# EAGLE library part 3-84953-0 (library 3-84953-0)
Check availability <https://pricing.snapeda.com/parts/3-84953-0/TE%20Connectivity/view-part?ref=eda>
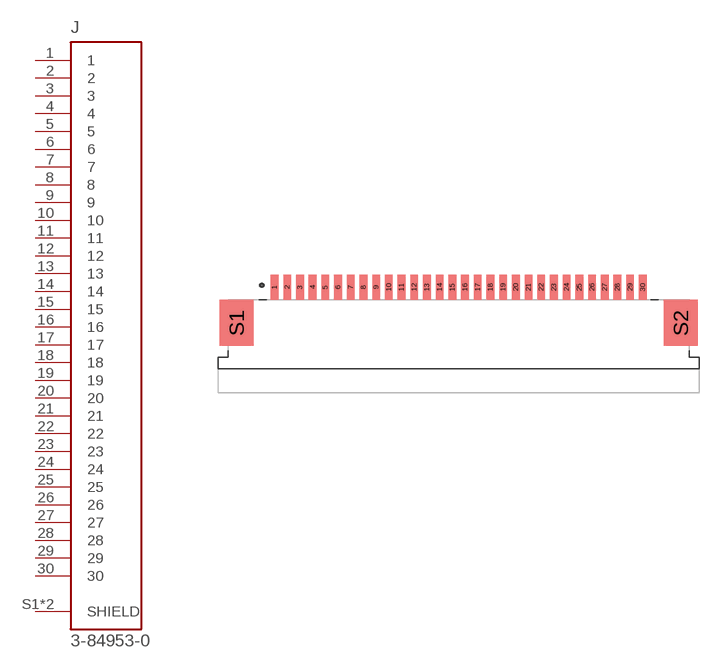
[diagram p0: symbol with the pads of TE_3-84953-0; footprint TE_3-84953-0]

Designator prefix J

## 3-84953-0 (Availability: In Stock; Centerline_Pitch: 1 mm[.039 in]; Comment: 3-84953-0; Description: 30 Position FPC Connector Contacts, Top 0.039 (1.00mm) Surface Mount, Right Angle; EU_RoHS_Compliance: Compliant; MF: TE Connectivity; MP: 3-84953-0; Number_of_Positions: 30; Package: None; Price: None; Product_Type: Connector; Purchase-URL: https://pricing.snapeda.com/search?q=3-84953-0&ref=eda)  [TE_3-84953-0]
1  1  pas
2  2  pas
3  3  pas
4  4  pas
5  5  pas
6  6  pas
7  7  pas
8  8  pas
9  9  pas
10  10  pas
11  11  pas
12  12  pas
13  13  pas
14  14  pas
15  15  pas
16  16  pas
17  17  pas
18  18  pas
19  19  pas
20  20  pas
21  21  pas
22  22  pas
23  23  pas
24  24  pas
25  25  pas
26  26  pas
27  27  pas
28  28  pas
29  29  pas
30  30  pas
S1  SHIELD  pas
S2  SHIELD  pas

## Footprint TE_3-84953-0 (pad centres in mm)
smd 0.61 x 2: 1 -14.5,0; 2 -13.5,0; 3 -12.5,0; 4 -11.5,0; 5 -10.5,0; 6 -9.5,0; 7 -8.5,0; 8 -7.5,0; 9 -6.5,0; 10 -5.5,0; 11 -4.5,0; 12 -3.5,0; 13 -2.5,0; 14 -1.5,0; 15 -0.5,0; 16 0.5,0; 17 1.5,0; 18 2.5,0; 19 3.5,0; 20 4.5,0; 21 5.5,0; 22 6.5,0; 23 7.5,0; 24 8.5,0; 25 9.5,0; 26 10.5,0; 27 11.5,0; 28 12.5,0; 29 13.5,0; 30 14.5,0
smd 2.68 x 3.6: S1 -17.49,-2.8; S2 17.49,-2.8